# EAGLE library part FT2232HL (library bb_ft2232hl)
FT2232H
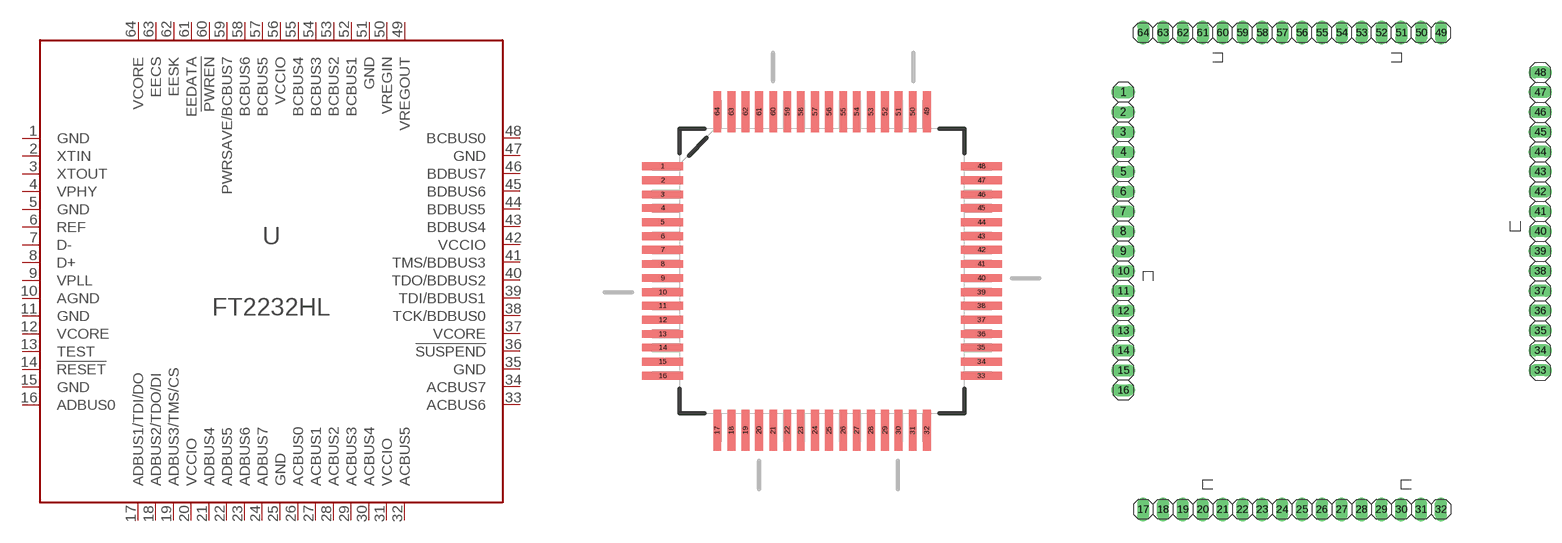
[diagram p0: symbol with the pads of LQFP-64; footprints LQFP-64, SIP]

Designator prefix U

## FT2232HLLQFP  [LQFP-64]
1  GND  pwr
2  XTIN  in
3  XTOUT  out
4  VPHY  pwr
5  GND  pwr
6  REF  in
7  D-
8  D+
9  VPLL  pwr
10  AGND  pwr
11  GND  pwr
12  VCORE  pwr
13  TEST  in
14  !RESET  in
15  GND  pwr
16  ADBUS0
17  ADBUS1/TDI/DO
18  ADBUS2/TDO/DI
19  ADBUS3/TMS/CS
20  VCCIO  pwr
21  ADBUS4
22  ADBUS5
23  ADBUS6
24  ADBUS7
25  GND  pwr
26  ACBUS0
27  ACBUS1
28  ACBUS2
29  ACBUS3
30  ACBUS4
31  VCCIO  pwr
32  ACBUS5
33  ACBUS6
34  ACBUS7
35  GND  pwr
36  !SUSPEND  out
37  VCORE  pwr
38  TCK/BDBUS0
39  TDI/BDBUS1
40  TDO/BDBUS2
41  TMS/BDBUS3
42  VCCIO  pwr
43  BDBUS4
44  BDBUS5
45  BDBUS6
46  BDBUS7
47  GND  pwr
48  BCBUS0
49  VREGOUT  pas
50  VREGIN  in
51  GND  pwr
52  BCBUS1
53  BCBUS2
54  BCBUS3
55  BCBUS4
56  VCCIO  pwr
57  BCBUS5
58  BCBUS6
59  PWRSAVE/BCBUS7
60  !PWREN  out
61  EEDATA  in
62  EESK  out
63  EECS  out
64  VCORE  pwr

## FT2232HLSIP  [SIP]
Pads as for LQFP-64

## FT2232HLDIP  [DIP]
Pads as for LQFP-64

## Footprint LQFP-64 (pad centres in mm)
TQFP 64
smd 1.473 x 0.279: 1 -5.715,3.759; 2 -5.715,3.251; 3 -5.715,2.743; 4 -5.715,2.261; 5 -5.715,1.753; 6 -5.715,1.245; 7 -5.715,0.762; 8 -5.715,0.254; 9 -5.715,-0.254; 10 -5.715,-0.762; 11 -5.715,-1.245; 12 -5.715,-1.753; 13 -5.715,-2.261; 14 -5.715,-2.743; 15 -5.715,-3.251; 16 -5.715,-3.759; 33 5.715,-3.759; 34 5.715,-3.251; 35 5.715,-2.743; 36 5.715,-2.261; 37 5.715,-1.753; 38 5.715,-1.245; 39 5.715,-0.762; 40 5.715,-0.254; 41 5.715,0.254; 42 5.715,0.762; 43 5.715,1.245; 44 5.715,1.753; 45 5.715,2.261; 46 5.715,2.743; 47 5.715,3.251; 48 5.715,3.759
smd 0.279 x 1.473: 17 -3.759,-5.715; 18 -3.251,-5.715; 19 -2.743,-5.715; 20 -2.261,-5.715; 21 -1.753,-5.715; 22 -1.245,-5.715; 23 -0.762,-5.715; 24 -0.254,-5.715; 25 0.254,-5.715; 26 0.762,-5.715; 27 1.245,-5.715; 28 1.753,-5.715; 29 2.261,-5.715; 30 2.743,-5.715; 31 3.251,-5.715; 32 3.759,-5.715; 49 3.759,5.715; 50 3.251,5.715; 51 2.743,5.715; 52 2.261,5.715; 53 1.753,5.715; 54 1.245,5.715; 55 0.762,5.715; 56 0.254,5.715; 57 -0.254,5.715; 58 -0.762,5.715; 59 -1.245,5.715; 60 -1.753,5.715; 61 -2.261,5.715; 62 -2.743,5.715; 63 -3.251,5.715; 64 -3.759,5.715

## Footprint SIP (pad centres in mm)
SIP 64
drill 1.016 long: 1 -26.67,24.13; 2 -26.67,21.59; 3 -26.67,19.05; 4 -26.67,16.51; 5 -26.67,13.97; 6 -26.67,11.43; 7 -26.67,8.89; 8 -26.67,6.35; 9 -26.67,3.81; 10 -26.67,1.27; 11 -26.67,-1.27; 12 -26.67,-3.81; 13 -26.67,-6.35; 14 -26.67,-8.89; 15 -26.67,-11.43; 16 -26.67,-13.97; 17 -24.13,-29.21; 18 -21.59,-29.21; 19 -19.05,-29.21; 20 -16.51,-29.21; 21 -13.97,-29.21; 22 -11.43,-29.21; 23 -8.89,-29.21; 24 -6.35,-29.21; 25 -3.81,-29.21; 26 -1.27,-29.21; 27 1.27,-29.21; 28 3.81,-29.21; 29 6.35,-29.21; 30 8.89,-29.21; 31 11.43,-29.21; 32 13.97,-29.21; 33 26.67,-11.43; 34 26.67,-8.89; 35 26.67,-6.35; 36 26.67,-3.81; 37 26.67,-1.27; 38 26.67,1.27; 39 26.67,3.81; 40 26.67,6.35; 41 26.67,8.89; 42 26.67,11.43; 43 26.67,13.97; 44 26.67,16.51; 45 26.67,19.05; 46 26.67,21.59; 47 26.67,24.13; 48 26.67,26.67; 49 13.97,31.75; 50 11.43,31.75; 51 8.89,31.75; 52 6.35,31.75; 53 3.81,31.75; 54 1.27,31.75; 55 -1.27,31.75; 56 -3.81,31.75; 57 -6.35,31.75; 58 -8.89,31.75; 59 -11.43,31.75; 60 -13.97,31.75; 61 -16.51,31.75; 62 -19.05,31.75; 63 -21.59,31.75; 64 -24.13,31.75

## Footprint DIP (pad centres in mm)
DIP 64
drill 1.016 octagon: 1 -16.51,15.24; 2 -13.97,15.24; 3 -16.51,12.7; 4 -13.97,12.7; 5 -16.51,10.16; 6 -13.97,10.16; 7 -16.51,7.62; 8 -13.97,7.62; 9 -16.51,5.08; 10 -13.97,5.08; 11 -16.51,2.54; 12 -13.97,2.54; 13 -16.51,0; 14 -13.97,0; 15 -16.51,-2.54; 16 -13.97,-2.54; 17 -13.97,-20.32; 18 -13.97,-17.78; 19 -11.43,-20.32; 20 -11.43,-17.78; 21 -8.89,-20.32; 22 -8.89,-17.78; 23 -6.35,-20.32; 24 -6.35,-17.78; 25 -3.81,-20.32; 26 -3.81,-17.78; 27 -1.27,-20.32; 28 -1.27,-17.78; 29 1.27,-20.32; 30 1.27,-17.78; 31 3.81,-20.32; 32 3.81,-17.78; 33 16.51,-2.54; 34 13.97,-2.54; 35 16.51,0; 36 13.97,0; 37 16.51,2.54; 38 13.97,2.54; 39 16.51,5.08; 40 13.97,5.08; 41 16.51,7.62; 42 13.97,7.62; 43 16.51,10.16; 44 13.97,10.16; 45 16.51,12.7; 46 13.97,12.7; 47 16.51,15.24; 48 13.97,15.24; 49 3.81,20.32; 50 3.81,17.78; 51 1.27,20.32; 52 1.27,17.78; 53 -1.27,20.32; 54 -1.27,17.78; 55 -3.81,20.32; 56 -3.81,17.78; 57 -6.35,20.32; 58 -6.35,17.78; 59 -8.89,20.32; 60 -8.89,17.78; 61 -11.43,20.32; 62 -11.43,17.78; 63 -13.97,20.32; 64 -13.97,17.78